# Altium footprint library SPI Breakout.PcbLib: 1 footprints
Each footprint in its own frame and in the unit in brackets; x right, y up, seen from the top. Pads: shape width x height; smd on the part's side, far side on the other; paste and mask are expansions set on the pad; w line width, h text height; cw(c..) or ccw(c..) is an arc to the next point about the centre after c.
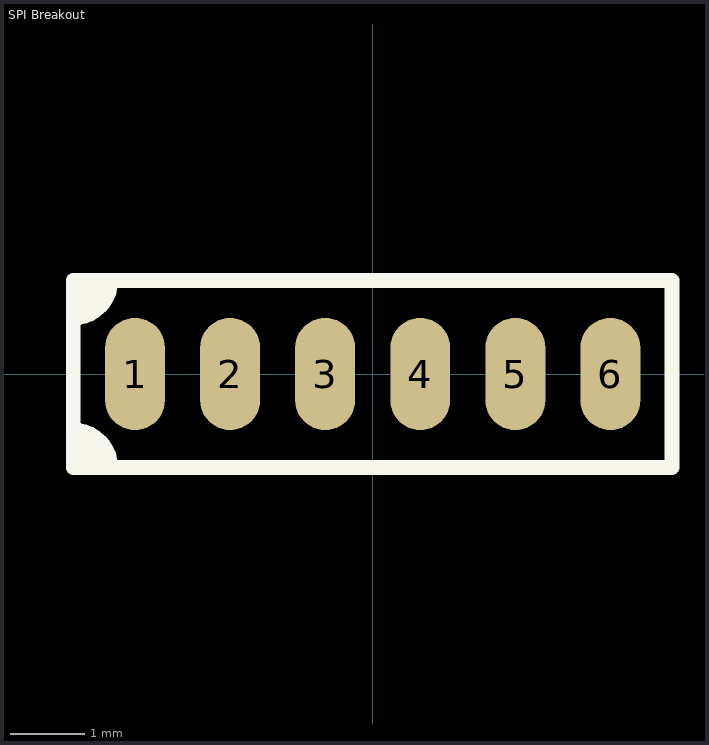
[diagram p0: the footprint, top view; thin cyan lines are the x and y axes]

## SPI Breakout [mm] "Flash Connection Point"
pads (6):
  oval 0.8x1.5 smd: 1(-3.175,0) 2(-1.905,0) 3(-0.635,0) 4(0.635,0) 5(1.905,0) 6(3.175,0)
Top Overlay:
  region: -4,1.25 -4,0.75 -3.75,0.75 -3.5,1 -3.5,1.25
  region: -4,-0.75 -3.75,-0.75 -3.5,-1 -3.5,-1.25 -4,-1.25
  lines w0.2: -4,-0.75 cw(c-4,-1.25) -3.5,-1.25 ; -4,0.75 ccw(c-4,1.25) -3.5,1.25 ; -4,-1.25 4,-1.25 4,1.25 -4,1.25 -4,-1.25